# EAGLE library part TCA9517 (library JLB6_Processor)
I2C level shifter, repeater (Texas, NXP PCA9517)
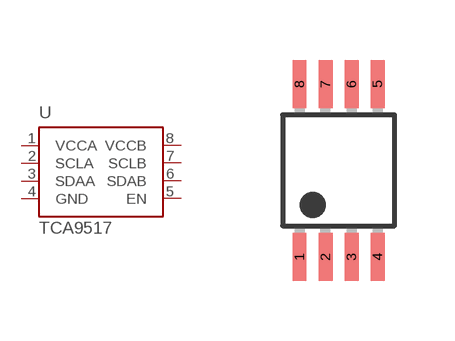
[diagram p43: symbol with the pads of TSSOP8-5; footprint TSSOP8-5]

Designator prefix U

## TCA9517  [TSSOP8-5]
1  VCCA  pwr
2  SCLA
3  SDAA
4  GND  pwr
5  EN
6  SDAB
7  SCLB
8  VCCB  pwr

## Footprint TSSOP8-5 (pad centres in mm)
TSSOP8 5mm ou VSSOP8 (DGK texas)
smd 0.35 x 1.2: 1 -0.975,-2.163; 2 -0.325,-2.163; 3 0.325,-2.163; 4 0.975,-2.163; 5 0.975,2.163; 6 0.325,2.163; 7 -0.325,2.163; 8 -0.975,2.163